# EAGLE library part EFM32JG1B100F*M32 (library EFM32)
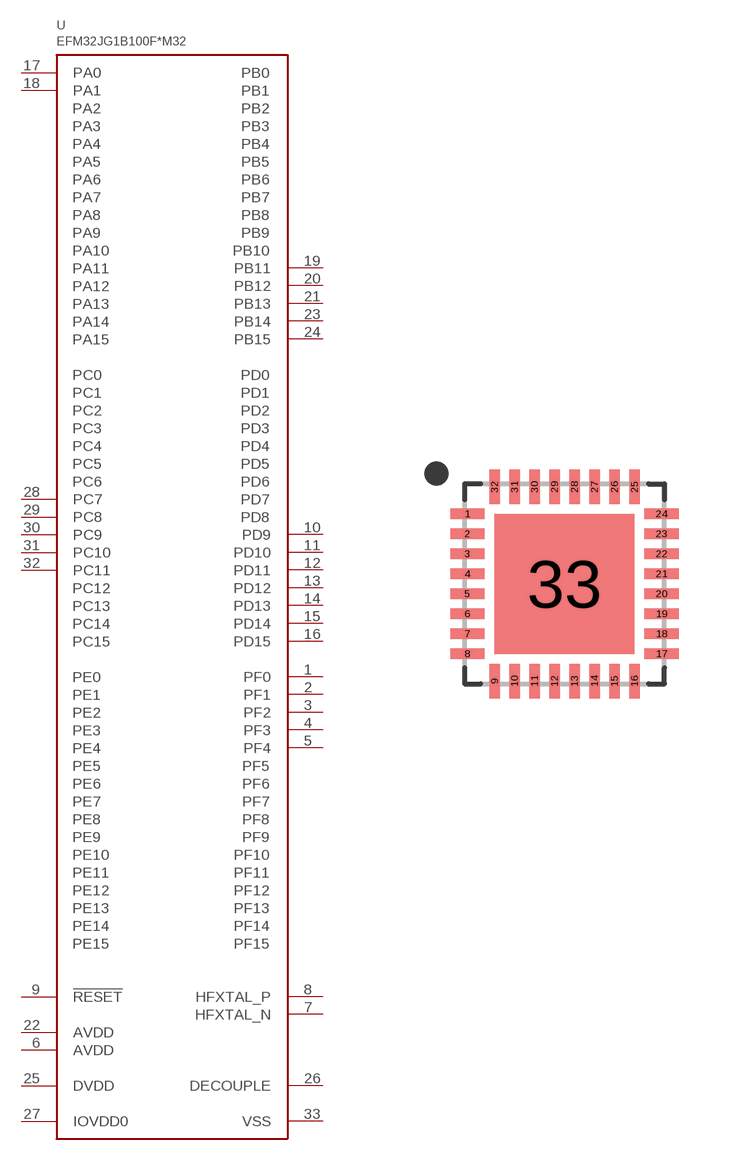
[diagram p9: symbol with the pads of QFN32_0.5P_JPG; footprint QFN32_0.5P_JPG]

Designator prefix U

## EFM32JG1B100F128GM32, EFM32JG1B100F256GM32, EFM32JG1B100F256IM32  [QFN32_0.5P_JPG]
1  PF0
2  PF1
3  PF2
4  PF3
5  PF4
6  AVDD
7  HFXTAL_N
8  HFXTAL_P
9  !RESET
10  PD9
11  PD10
12  PD11
13  PD12
14  PD13
15  PD14
16  PD15
17  PA0
18  PA1
19  PB11
20  PB12
21  PB13
22  AVDD
23  PB14
24  PB15
25  DVDD
26  DECOUPLE
27  IOVDD0
28  PC7
29  PC8
30  PC9
31  PC10
32  PC11
33  VSS

## Footprint QFN32_0.5P_JPG (pad centres in mm)
smd 0.86 x 0.26: 1 -2.43,1.75; 2 -2.43,1.25; 3 -2.43,0.75; 4 -2.43,0.25; 5 -2.43,-0.25; 6 -2.43,-0.75; 7 -2.43,-1.25; 8 -2.43,-1.75; 17 2.43,-1.75; 18 2.43,-1.25; 19 2.43,-0.75; 20 2.43,-0.25; 21 2.43,0.25; 22 2.43,0.75; 23 2.43,1.25; 24 2.43,1.75
smd 0.26 x 0.86: 9 -1.75,-2.43; 10 -1.25,-2.43; 11 -0.75,-2.43; 12 -0.25,-2.43; 13 0.25,-2.43; 14 0.75,-2.43; 15 1.25,-2.43; 16 1.75,-2.43; 25 1.75,2.43; 26 1.25,2.43; 27 0.75,2.43; 28 0.25,2.43; 29 -0.25,2.43; 30 -0.75,2.43; 31 -1.25,2.43; 32 -1.75,2.43
smd 3.5 x 3.5: 33 0,0